# EAGLE library part XCR3512XL-PQ208 (library Xilinx)
XCR3512XL CoolRunner CPLD. Don't use for new designs.
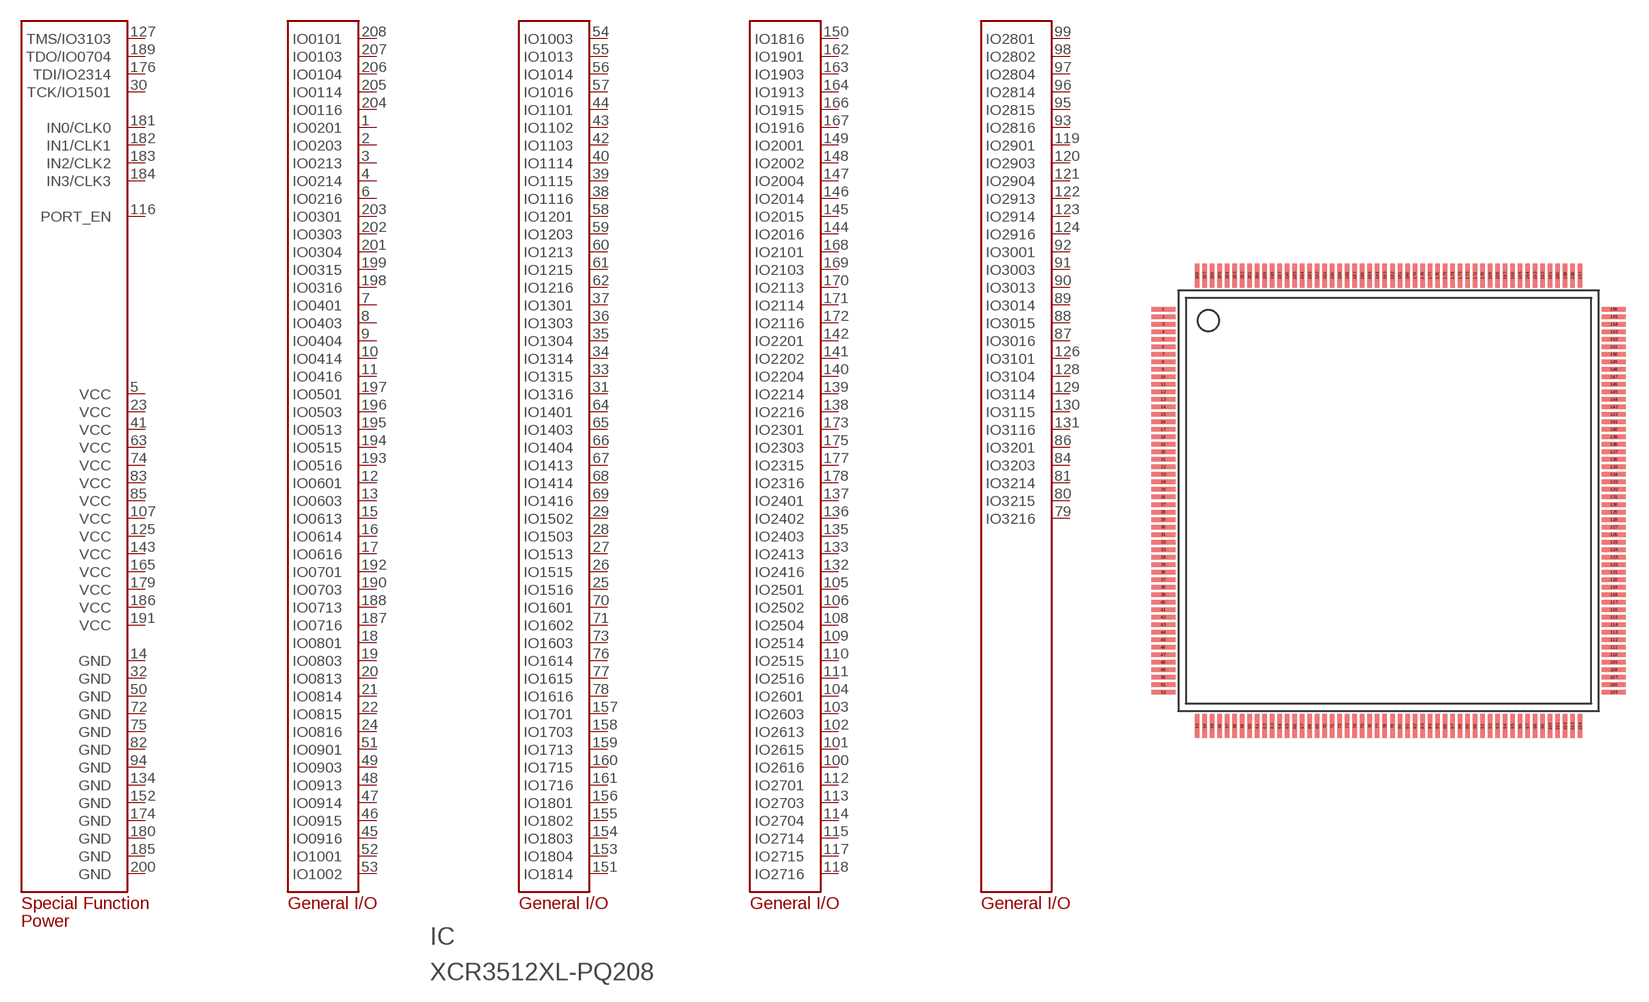
[diagram p8: symbol with the pads of PQ208; footprint PQ208]

Designator prefix IC

## XCR3512XL-PQ208  [PQ208]
1  IO0201
2  IO0203
3  IO0213
4  IO0214
5  VCC  pwr
6  IO0216
7  IO0401
8  IO0403
9  IO0404
10  IO0414
11  IO0416
12  IO0601
13  IO0603
14  GND  pwr
15  IO0613
16  IO0614
17  IO0616
18  IO0801
19  IO0803
20  IO0813
21  IO0814
22  IO0815
23  VCC  pwr
24  IO0816
25  IO1516
26  IO1515
27  IO1513
28  IO1503
29  IO1502
30  TCK/IO1501
31  IO1316
32  GND  pwr
33  IO1315
34  IO1314
35  IO1304
36  IO1303
37  IO1301
38  IO1116
39  IO1115
40  IO1114
41  VCC  pwr
42  IO1103
43  IO1102
44  IO1101
45  IO0916
46  IO0915
47  IO0914
48  IO0913
49  IO0903
50  GND  pwr
51  IO0901
52  IO1001
53  IO1002
54  IO1003
55  IO1013
56  IO1014
57  IO1016
58  IO1201
59  IO1203
60  IO1213
61  IO1215
62  IO1216
63  VCC  pwr
64  IO1401
65  IO1403
66  IO1404
67  IO1413
68  IO1414
69  IO1416
70  IO1601
71  IO1602
72  GND  pwr
73  IO1603
74  VCC  pwr
75  GND  pwr
76  IO1614
77  IO1615
78  IO1616
79  IO3216
80  IO3215
81  IO3214
82  GND  pwr
83  VCC  pwr
84  IO3203
85  VCC  pwr
86  IO3201
87  IO3016
88  IO3015
89  IO3014
90  IO3013
91  IO3003
92  IO3001
93  IO2816
94  GND  pwr
95  IO2815
96  IO2814
97  IO2804
98  IO2802
99  IO2801
100  IO2616
101  IO2615
102  IO2613
103  IO2603
104  IO2601
105  IO2501
106  IO2502
107  VCC  pwr
108  IO2504
109  IO2514
110  IO2515
111  IO2516
112  IO2701
113  IO2703
114  IO2704
115  IO2714
116  PORT_EN
117  IO2715
118  IO2716
119  IO2901
120  IO2903
121  IO2904
122  IO2913
123  IO2914
124  IO2916
125  VCC  pwr
126  IO3101
127  TMS/IO3103
128  IO3104
129  IO3114
130  IO3115
131  IO3116
132  IO2416
133  IO2413
134  GND  pwr
135  IO2403
136  IO2402
137  IO2401
138  IO2216
139  IO2214
140  IO2204
141  IO2202
142  IO2201
143  VCC  pwr
144  IO2016
145  IO2015
146  IO2014
147  IO2004
148  IO2002
149  IO2001
150  IO1816
151  IO1814
152  GND  pwr
153  IO1804
154  IO1803
155  IO1802
156  IO1801
157  IO1701
158  IO1703
159  IO1713
160  IO1715
161  IO1716
162  IO1901
163  IO1903
164  IO1913
165  VCC  pwr
166  IO1915
167  IO1916
168  IO2101
169  IO2103
170  IO2113
171  IO2114
172  IO2116
173  IO2301
174  GND  pwr
175  IO2303
176  TDI/IO2314
177  IO2315
178  IO2316
179  VCC  pwr
180  GND  pwr
181  IN0/CLK0
182  IN1/CLK1
183  IN2/CLK2
184  IN3/CLK3
185  GND  pwr
186  VCC  pwr
187  IO0716
188  IO0713
189  TDO/IO0704
190  IO0703
191  VCC  pwr
192  IO0701
193  IO0516
194  IO0515
195  IO0513
196  IO0503
197  IO0501
198  IO0316
199  IO0315
200  GND  pwr
201  IO0304
202  IO0303
203  IO0301
204  IO0116
205  IO0114
206  IO0104
207  IO0103
208  IO0101

## Footprint PQ208 (pad centres in mm)
smd 1.6 x 0.3: 1 -15,12.75; 2 -15,12.25; 3 -15,11.75; 4 -15,11.25; 5 -15,10.75; 6 -15,10.25; 7 -15,9.75; 8 -15,9.25; 9 -15,8.75; 10 -15,8.25; 11 -15,7.75; 12 -15,7.25; 13 -15,6.75; 14 -15,6.25; 15 -15,5.75; 16 -15,5.25; 17 -15,4.75; 18 -15,4.25; 19 -15,3.75; 20 -15,3.25; 21 -15,2.75; 22 -15,2.25; 23 -15,1.75; 24 -15,1.25; 25 -15,0.75; 26 -15,0.25; 27 -15,-0.25; 28 -15,-0.75; 29 -15,-1.25; 30 -15,-1.75; 31 -15,-2.25; 32 -15,-2.75; 33 -15,-3.25; 34 -15,-3.75; 35 -15,-4.25; 36 -15,-4.75; 37 -15,-5.25; 38 -15,-5.75; 39 -15,-6.25; 40 -15,-6.75; 41 -15,-7.25; 42 -15,-7.75; 43 -15,-8.25; 44 -15,-8.75; 45 -15,-9.25; 46 -15,-9.75; 47 -15,-10.25; 48 -15,-10.75; 49 -15,-11.25; 50 -15,-11.75; 51 -15,-12.25; 52 -15,-12.75; 105 15,-12.75; 106 15,-12.25; 107 15,-11.75; 108 15,-11.25; 109 15,-10.75; 110 15,-10.25; 111 15,-9.75; 112 15,-9.25; 113 15,-8.75; 114 15,-8.25; 115 15,-7.75; 116 15,-7.25; 117 15,-6.75; 118 15,-6.25; 119 15,-5.75; 120 15,-5.25; 121 15,-4.75; 122 15,-4.25; 123 15,-3.75; 124 15,-3.25; 125 15,-2.75; 126 15,-2.25; 127 15,-1.75; 128 15,-1.25; 129 15,-0.75; 130 15,-0.25; 131 15,0.25; 132 15,0.75; 133 15,1.25; 134 15,1.75; 135 15,2.25; 136 15,2.75; 137 15,3.25; 138 15,3.75; 139 15,4.25; 140 15,4.75; 141 15,5.25; 142 15,5.75; 143 15,6.25; 144 15,6.75; 145 15,7.25; 146 15,7.75; 147 15,8.25; 148 15,8.75; 149 15,9.25; 150 15,9.75; 151 15,10.25; 152 15,10.75; 153 15,11.25; 154 15,11.75; 155 15,12.25; 156 15,12.75
smd 0.3 x 1.6: 53 -12.75,-15; 54 -12.25,-15; 55 -11.75,-15; 56 -11.25,-15; 57 -10.75,-15; 58 -10.25,-15; 59 -9.75,-15; 60 -9.25,-15; 61 -8.75,-15; 62 -8.25,-15; 63 -7.75,-15; 64 -7.25,-15; 65 -6.75,-15; 66 -6.25,-15; 67 -5.75,-15; 68 -5.25,-15; 69 -4.75,-15; 70 -4.25,-15; 71 -3.75,-15; 72 -3.25,-15; 73 -2.75,-15; 74 -2.25,-15; 75 -1.75,-15; 76 -1.25,-15; 77 -0.75,-15; 78 -0.25,-15; 79 0.25,-15; 80 0.75,-15; 81 1.25,-15; 82 1.75,-15; 83 2.25,-15; 84 2.75,-15; 85 3.25,-15; 86 3.75,-15; 87 4.25,-15; 88 4.75,-15; 89 5.25,-15; 90 5.75,-15; 91 6.25,-15; 92 6.75,-15; 93 7.25,-15; 94 7.75,-15; 95 8.25,-15; 96 8.75,-15; 97 9.25,-15; 98 9.75,-15; 99 10.25,-15; 100 10.75,-15; 101 11.25,-15; 102 11.75,-15; 103 12.25,-15; 104 12.75,-15; 157 12.75,15; 158 12.25,15; 159 11.75,15; 160 11.25,15; 161 10.75,15; 162 10.25,15; 163 9.75,15; 164 9.25,15; 165 8.75,15; 166 8.25,15; 167 7.75,15; 168 7.25,15; 169 6.75,15; 170 6.25,15; 171 5.75,15; 172 5.25,15; 173 4.75,15; 174 4.25,15; 175 3.75,15; 176 3.25,15; 177 2.75,15; 178 2.25,15; 179 1.75,15; 180 1.25,15; 181 0.75,15; 182 0.25,15; 183 -0.25,15; 184 -0.75,15; 185 -1.25,15; 186 -1.75,15; 187 -2.25,15; 188 -2.75,15; 189 -3.25,15; 190 -3.75,15; 191 -4.25,15; 192 -4.75,15; 193 -5.25,15; 194 -5.75,15; 195 -6.25,15; 196 -6.75,15; 197 -7.25,15; 198 -7.75,15; 199 -8.25,15; 200 -8.75,15; 201 -9.25,15; 202 -9.75,15; 203 -10.25,15; 204 -10.75,15; 205 -11.25,15; 206 -11.75,15; 207 -12.25,15; 208 -12.75,15